# Altium integrated library 690-005-298-486.IntLib: 1 symbol
Pins are listed as number, name and electrical type; pins without a type are passive.

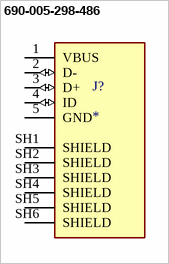
[diagram p0: symbol 690-005-298-486]

## 690-005-298-486
designator J?
Socket; USB A mini; SMT; angled 90Â°; V: USB 2.0; gold plated; MF: EDAC; MP: 690-005-298-486; SnapEDA_Link: https://www.snapeda.com/parts/690-005-298-486/EDAC/view-part/?ref=snap; Package: None; Value: *; Check_prices: https://www.snapeda.com/parts/690-005-298-486/EDAC/view-part/?ref=eda
footprint EDAC_690-005-298-486
pins: 1 VBUS (power), 2 D- (io), 3 D+ (io), 4 ID (io), 5 GND (power), SH1 SHIELD, SH2 SHIELD, SH3 SHIELD, SH4 SHIELD, SH5 SHIELD, SH6 SHIELD